# EAGLE library part MAGJACK_PEO_RJ45V2 (library personal)
ethernet magjack rj45 connector with - integrated magnetics - leds (with resistors) - POE (power over ethernet) Digikey part number A99645-ND
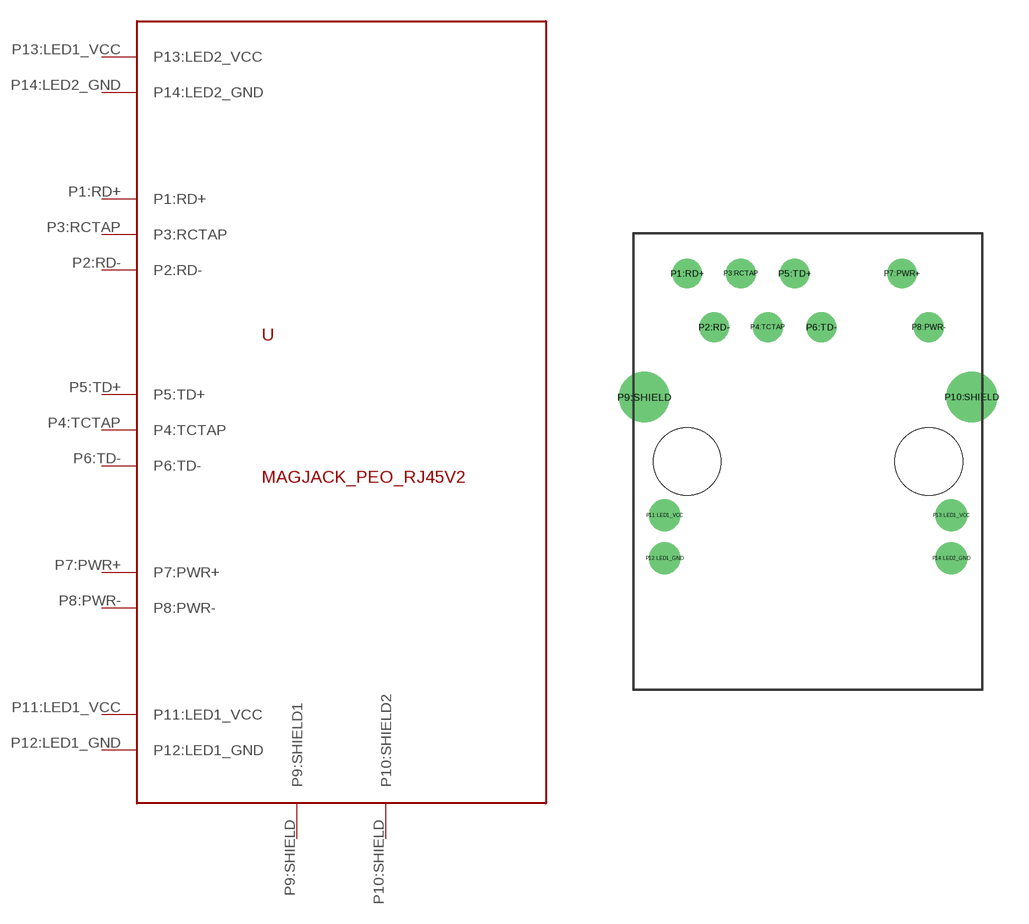
[diagram p9: symbol with the pads of MAGJACK_PEO_RJ45V2; footprint MAGJACK_PEO_RJ45V2]

Designator prefix -

## MAGJACK_PEO_RJ45V2  [MAGJACK_PEO_RJ45V2]
P1:RD+  P1:RD+
P2:RD-  P2:RD-
P3:RCTAP  P3:RCTAP
P4:TCTAP  P4:TCTAP
P5:TD+  P5:TD+
P6:TD-  P6:TD-
P7:PWR+  P7:PWR+
P8:PWR-  P8:PWR-
P9:SHIELD  P9:SHIELD1
P10:SHIELD  P10:SHIELD2
P11:LED1_VCC  P11:LED1_VCC
P12:LED1_GND  P12:LED1_GND
P13:LED1_VCC  P13:LED2_VCC
P14:LED2_GND  P14:LED2_GND

## Footprint MAGJACK_PEO_RJ45V2 (pad centres in mm)
drill 0.9 round: P1:RD+ -5.08,8.89; P2:RD- -3.81,6.35; P3:RCTAP -2.54,8.89; P4:TCTAP -1.27,6.35; P5:TD+ 0,8.89; P6:TD- 1.27,6.35; P7:PWR+ 5.08,8.89; P8:PWR- 6.35,6.35
drill 1.6 round: P9:SHIELD -7.112,3.048; P10:SHIELD 8.382,3.048
drill 1 round: P11:LED1_VCC -6.147,-2.54; P12:LED1_GND -6.147,-4.572; P13:LED1_VCC 7.417,-2.54; P14:LED2_GND 7.417,-4.572
hole 3.2 at -5.08,0
hole 3.2 at 6.35,0